# Altium footprint library MODULE_ESP32-C3_SUPERMINI.PcbLib: 1 footprints
Each footprint in its own frame and in the unit in brackets; x right, y up, seen from the top. Pads: shape width x height; smd on the part's side, far side on the other; paste and mask are expansions set on the pad; w line width, h text height; cw(c..) or ccw(c..) is an arc to the next point about the centre after c.
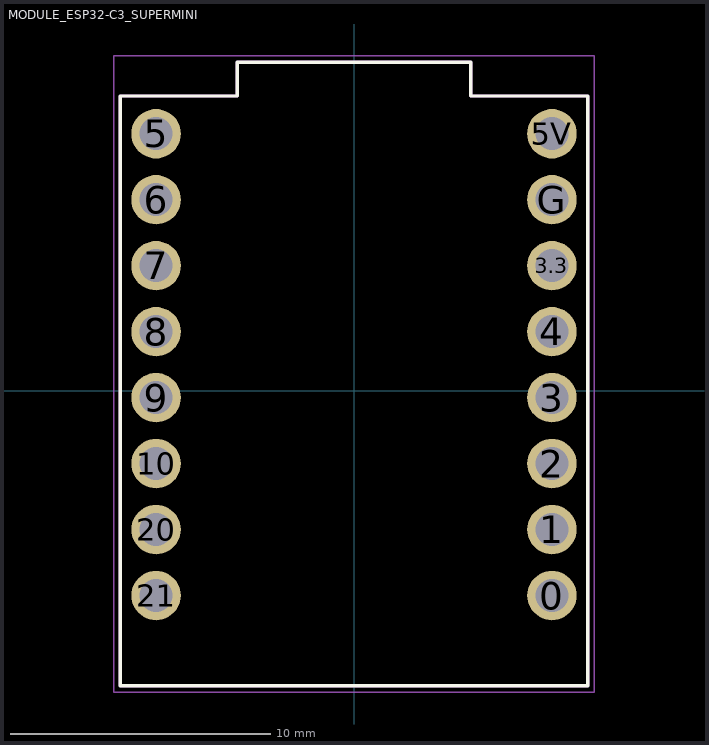
[diagram p0: the footprint, top view; thin cyan lines are the x and y axes]

## MODULE_ESP32-C3_SUPERMINI [mm]
height 4.2
pads (16):
  round 1.905 hole 1.27: 0(7.62,-7.88) 1(7.62,-5.34) 2(7.62,-2.8) 3(7.62,-0.26) 3.3(7.62,4.82) 4(7.62,2.28) 5(-7.62,9.9) 5V(7.62,9.9) 6(-7.62,7.36) 7(-7.62,4.82) 8(-7.62,2.28) 9(-7.62,-0.26) 10(-7.62,-2.8) 20(-7.62,-5.34) 21(-7.62,-7.88) G(7.62,7.36)
Top Overlay:
  lines w0.127: -9,-11.35 -9,11.35 -4.5,11.35 -4.5,12.65 4.5,12.65 4.5,11.35 9,11.35 9,-11.35 -9,-11.35
Mechanical 13:
  lines w0.127: -9,-11.35 -9,11.35 -4.5,11.35 -4.5,12.65 4.5,12.65 4.5,11.35 9,11.35 9,-11.35 -9,-11.35
Mechanical 15:
  lines w0.05: -9.25,-11.6 -9.25,12.9 9.25,12.9 9.25,-11.6 -9.25,-11.6
3D body "ESP32-C3 supermini v5.step": height 3.49, standoff -0.71, extent -8.89,-11.365 8.913,12.635